# EAGLE library part XC878 (library hsk_2012)
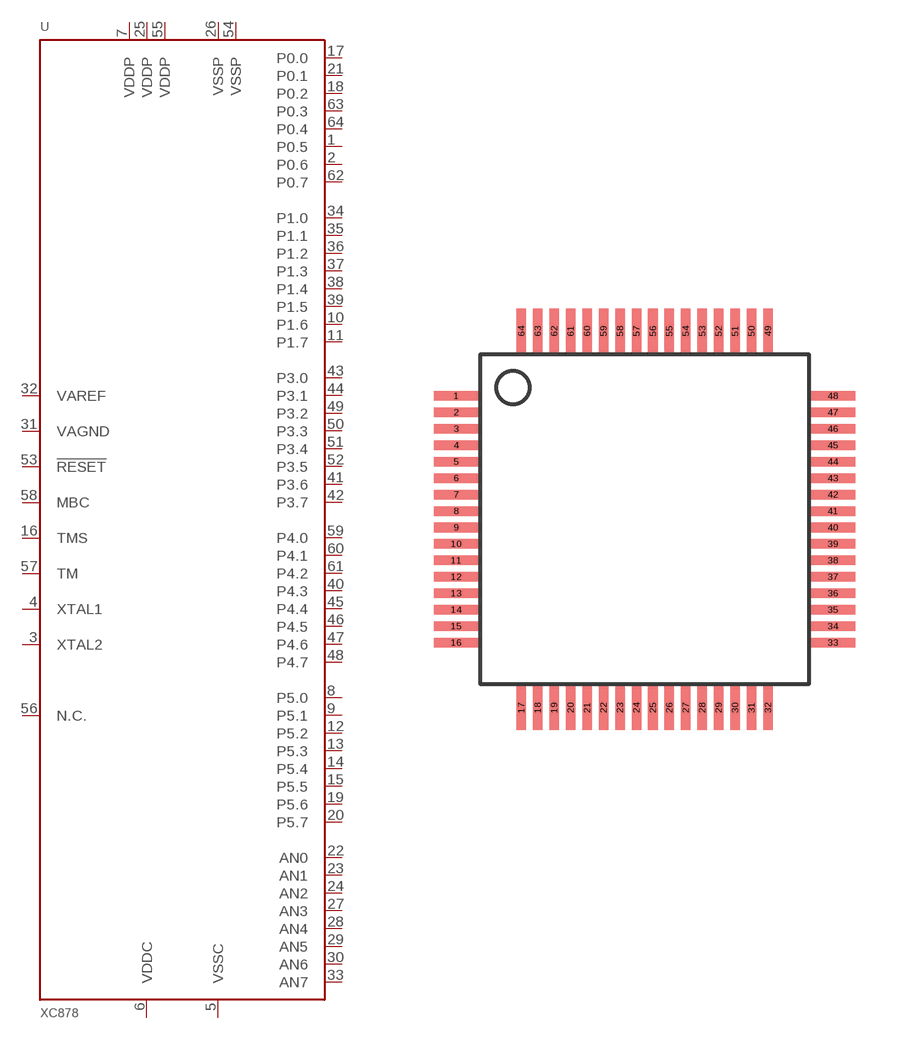
[diagram p20: symbol with the pads of PG-LQFP-64-4; footprint PG-LQFP-64-4]

Designator prefix -

## XC878  [PG-LQFP-64-4]
1  P0.5
2  P0.6
3  XTAL2  out
4  XTAL1  in
5  VSSC  sup
6  VDDC  pwr
7  VDDP  pwr
8  P5.0  sup
9  P5.1  sup
10  P1.6
11  P1.7
12  P5.2  sup
13  P5.3  sup
14  P5.4  sup
15  P5.5  sup
16  TMS  in
17  P0.0
18  P0.2
19  P5.6  sup
20  P5.7  sup
21  P0.1
22  AN0  in
23  AN1  in
24  AN2  in
25  VDDP  pwr
26  VSSP  sup
27  AN3  in
28  AN4  in
29  AN5  in
30  AN6  in
31  VAGND  sup
32  VAREF  pwr
33  AN7  in
34  P1.0
35  P1.1
36  P1.2
37  P1.3
38  P1.4
39  P1.5
40  P4.3
41  P3.6
42  P3.7
43  P3.0
44  P3.1
45  P4.4
46  P4.5
47  P4.6
48  P4.7
49  P3.2
50  P3.3
51  P3.4
52  P3.5
53  !RESET!  in
54  VSSP  sup
55  VDDP  pwr
56  N.C.  nc
57  TM
58  MBC  in
59  P4.0
60  P4.1
61  P4.2
62  P0.7
63  P0.3
64  P0.4

## Footprint PG-LQFP-64-4 (pad centres in mm)
smd 1.35 x 0.29: 1 -5.725,3.75; 2 -5.725,3.25; 3 -5.725,2.75; 4 -5.725,2.25; 5 -5.725,1.75; 6 -5.725,1.25; 7 -5.725,0.75; 8 -5.725,0.25; 9 -5.725,-0.25; 10 -5.725,-0.75; 11 -5.725,-1.25; 12 -5.725,-1.75; 13 -5.725,-2.25; 14 -5.725,-2.75; 15 -5.725,-3.25; 16 -5.725,-3.75; 33 5.725,-3.75; 34 5.725,-3.25; 35 5.725,-2.75; 36 5.725,-2.25; 37 5.725,-1.75; 38 5.725,-1.25; 39 5.725,-0.75; 40 5.725,-0.25; 41 5.725,0.25; 42 5.725,0.75; 43 5.725,1.25; 44 5.725,1.75; 45 5.725,2.25; 46 5.725,2.75; 47 5.725,3.25; 48 5.725,3.75
smd 0.29 x 1.35: 17 -3.75,-5.725; 18 -3.25,-5.725; 19 -2.75,-5.725; 20 -2.25,-5.725; 21 -1.75,-5.725; 22 -1.25,-5.725; 23 -0.75,-5.725; 24 -0.25,-5.725; 25 0.25,-5.725; 26 0.75,-5.725; 27 1.25,-5.725; 28 1.75,-5.725; 29 2.25,-5.725; 30 2.75,-5.725; 31 3.25,-5.725; 32 3.75,-5.725; 49 3.75,5.725; 50 3.25,5.725; 51 2.75,5.725; 52 2.25,5.725; 53 1.75,5.725; 54 1.25,5.725; 55 0.75,5.725; 56 0.25,5.725; 57 -0.25,5.725; 58 -0.75,5.725; 59 -1.25,5.725; 60 -1.75,5.725; 61 -2.25,5.725; 62 -2.75,5.725; 63 -3.25,5.725; 64 -3.75,5.725